# Altium footprint library SW-SMD_SIQ-02FVS3_1_2022-03-15.PcbLib: 1 footprints
Each footprint in its own frame and in the unit in brackets; x right, y up, seen from the top. Pads: shape width x height; smd on the part's side, far side on the other; paste and mask are expansions set on the pad; w line width, h text height; cw(c..) or ccw(c..) is an arc to the next point about the centre after c.
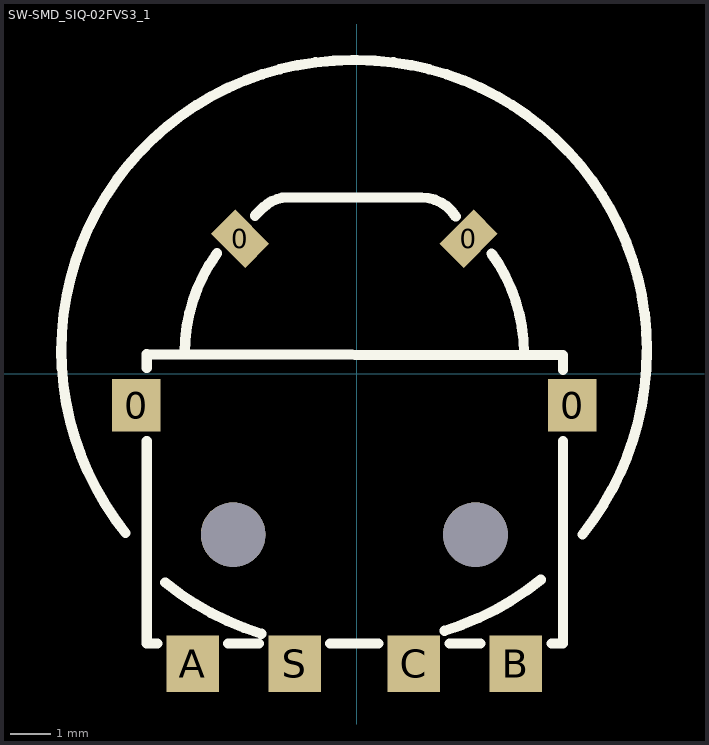
[diagram p0: the footprint, top view; thin cyan lines are the x and y axes]

## SW-SMD_SIQ-02FVS3_1 [mm]
pads (10):
  rect 1.2x1.3 smd: 0(-5.46,-0.788) 0(5.34,-0.788)
  rect 0.85x1.2 smd rot 45: 0(-2.888,3.34)
  rect 0.85x1.2 smd rot 135: 0(2.769,3.34)
  rect 1.3x1.4 smd: A(-4.06,-7.189) B(3.94,-7.189) C(1.415,-7.189) S(-1.535,-7.189)
  round 1.6 hole 1.6 unplated: ""(-3.06,-3.989) ""(2.94,-3.989)
Top Overlay:
  lines w0.254: -7.313,0.565 cw(c-0.117,0.565) -0.117,7.762 -0.06,7.762 0.003,7.762 cw(c0.003,0.579) 7.186,0.579 7.186,0.412 ; -7.313,0.591 ccw(c-0.037,0.591) -5.723,-3.948 ; -5.2,-1.67 -5.2,-5.77 -5.2,-6.684 -5.1,-6.684 -4.941,-6.684 ; -5.2,0.136 -5.2,0.469 ; -5.2,0.476 5.04,0.456 5.11,0.456 5.11,0.093 ; -4.74,-5.174 ccw(c-0.276,0.341) -2.362,-6.441 ; -4.26,0.512 cw(c-0.06,0.511) -3.458,2.979 ; -3.178,-6.684 -2.416,-6.684 ; -2.52,3.906 -2.31,4.115 cw(c-1.715,3.519) -1.715,4.362 1.596,4.362 cw(c1.596,3.35) 2.453,3.886 ; -0.653,-6.684 0.534,-6.684 ; 2.177,-6.371 ccw(c0.09,0.412) 4.554,-5.104 ; 2.296,-6.684 3.059,-6.684 ; 2.311,4.065 2.36,4.016 ; 3.339,2.973 cw(c-0.06,0.506) 4.14,0.506 ; 4.822,-6.684 5.11,-6.684 5.11,-5.77 ; 5.11,-5.992 5.11,-1.67 ; 5.591,-3.984 ccw(c-0.095,0.556) 7.18,0.556
Mechanical 15:
  circle w0.5: c2.94,-3.989 r0.25
  circle w0.5: c-3.06,-3.989 r0.25